# Altium footprint library 132203.PcbLib: 1 footprints
Each footprint in its own frame and in the unit in brackets; x right, y up, seen from the top. Pads: shape width x height; smd on the part's side, far side on the other; paste and mask are expansions set on the pad; w line width, h text height; cw(c..) or ccw(c..) is an arc to the next point about the centre after c.
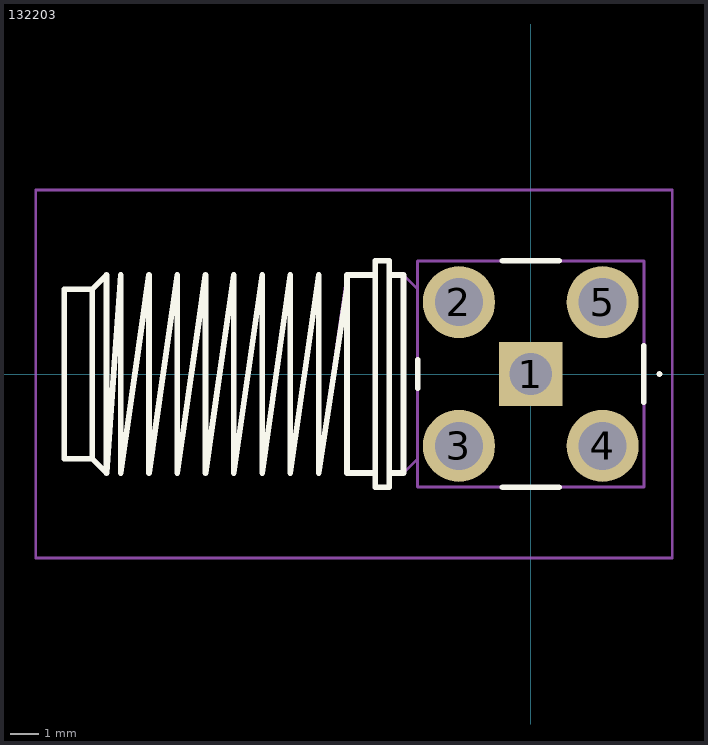
[diagram p0: the footprint, top view; thin cyan lines are the x and y axes]

## 132203 [mm]
pads (5):
  rect 2.25x2.25 hole 1.5: 1(0,0)
  round 2.55 hole 1.7: 2(-2.54,2.54) 3(-2.54,-2.54) 4(2.54,-2.54) 5(2.54,2.54)
Top Overlay:
  lines w0.1: 4.5,0 cw(c4.55,0) 4.6,0 ; 4.5,0 4.5,0 ; 4.5,0 ccw(c4.55,0) 4.6,0 ; 4.6,0 4.6,0
  lines w0.2: -6.5,3 -7.5,-3.5 -7.5,3.5 -8.5,-3.5 -8.5,3.5 -9.5,-3.5 -9.5,3.5 -10.5,-3.5 -10.5,3.5 -11.5,-3.5 -11.5,3.5 -12.5,-3.5 -12.5,3.5 -13.5,-3.5 -13.5,3.5 -14.5,-3.5 -14.5,3.5 -15,-3.5 ; -5.5,-3.5 -6.5,-3.5 -6.5,3.5 -5.5,3.5 ; -4,-0.5 -4,0.5 ; -1,-4 1,-4 ; -1,4 1,4 ; 4,-1 4,1 ; -15.5,-3 -15.5,3 ; -15.5,-3 -15,-3.5 ; -15.5,-3 -16.5,-3 -16.5,3 -15.5,3 ; -15.5,3 -15,3.5 -15,-3.5 ; -5,-3.5 -5,3.5 ; -5,-3.5 -4.5,-3.5 -4.5,3.5 -5,3.5 ; -5,-3.5 -5,-4 -5.5,-4 -5.5,4 -5,4 -5,3.5
Mechanical 15:
  lines w0.1: -5.5,-3.5 -6.5,-3.5 -6.5,-3 -6.5,3 -6.5,3.5 ; -5.5,3.5 -6.5,3.5 ; -5,-3 -5,-4 -5.5,-4 -5.5,4 -5,4 -5,3.5 ; -4,-3 -4.5,-3.5 ; -4,-1 -4,1 ; -4,3 -4.5,3.5 ; -15.5,-3 -15.5,3 ; -15.5,-3 -15,-3.5 ; -15.5,-3 -16.5,-3 -16.5,3 -15.5,3 ; -15.5,3 -15,3.5 -15,-3.5 ; -15.5,3 -15.5,3 ; -15,-3.5 -14.5,3.5 -14.5,-3.5 -13.5,3.5 -13.5,-3.5 -12.5,3.5 -12.5,-3.5 -11.5,3.5 -11.5,-3.5 -10.5,3.5 -10.5,-3.5 -9.5,3.5 -9.5,-3.5 -8.5,3.5 -8.5,-3.5 -7.5,3.5 -7.5,-3.5 -6.5,3.5 ; -6.5,3.5 -6.5,3.5 ; -6.5,3.5 -6.5,3.5 ; -5,3.5 -4.5,3.5 ; -5,3.5 -5,-3.5 -4.5,-3.5 ; -4.5,-3.5 -4.5,3.5 ; -4,-4 4,-4 4,4 -4,4 -4,-4
Mechanical 20:
  lines w0.1: -17.5,-6.5 -17.5,6.5 5,6.5 5,-6.5 -17.5,-6.5